# EAGLE library part 556DIGITAL (library 326298_rev_a)
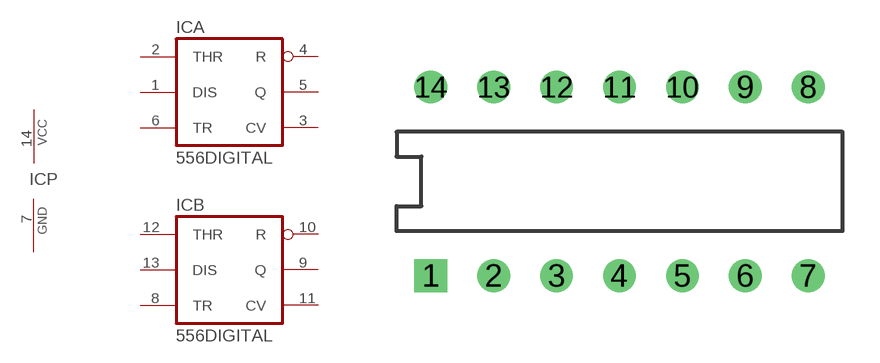
[diagram p17: symbol with the pads of DIL14; footprint DIL14]

Designator prefix IC; gates A=556 B=556 P=PWRN

## 556DIGITAL (RS: 102-5739)  [DIL14]
1  A:DIS  in
2  A:THR  in
3  A:CV  pas
4  A:R  in
5  A:Q  out
6  A:TR  in
7  P:GND  pwr
8  B:TR  in
9  B:Q  out
10  B:R  in
11  B:CV  pas
12  B:THR  in
13  B:DIS  in
14  P:VCC  pwr

## Footprint DIL14 (pad centres in mm)
Dual In Line Package
drill 0.813 square: 1 0,0
drill 0.813: 2 2.54,0; 3 5.08,0; 4 7.62,0; 5 10.16,0; 6 12.7,0; 7 15.24,0; 8 15.24,7.62; 9 12.7,7.62; 10 10.16,7.62; 11 7.62,7.62; 12 5.08,7.62; 13 2.54,7.62; 14 0,7.62